# EAGLE library part STM32WLE5J8I6 (library STM32WLE5J8)
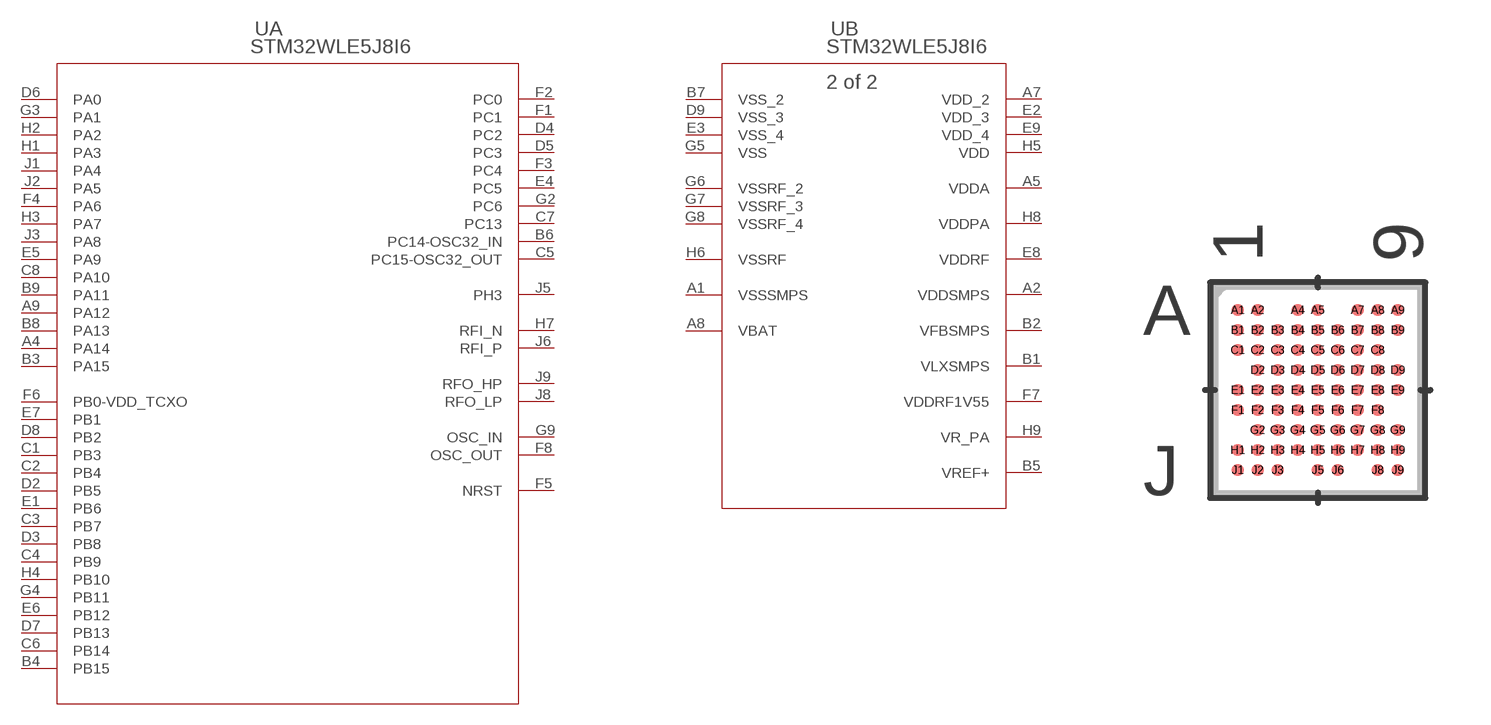
[diagram p0: symbol with the pads of UFBGA73; footprint UFBGA73]

Designator prefix U; gates A=STM32WL_UFBGA73_T1 B=STM32WL_UFBGA73_T1_1

## STM32WLE5J8I6 (COPYRIGHT: Copyright (C) 2023 Ultra Librarian. All rights reserved.; MANUFACTURER_PART_NUMBER: STM32WLE5J8I6; MFR_NAME: STMicroelectronics)  [UFBGA73]
A1  B:VSSSMPS  pwr
A2  B:VDDSMPS  pwr
A4  A:PA14
A5  B:VDDA  pwr
A7  B:VDD_2  pwr
A8  B:VBAT  pwr
A9  A:PA12
B1  B:VLXSMPS  pwr
B2  B:VFBSMPS  pwr
B3  A:PA15
B4  A:PB15
B5  B:VREF+  pwr
B6  A:PC14-OSC32_IN
B7  B:VSS_2  pwr
B8  A:PA13
B9  A:PA11
C1  A:PB3
C2  A:PB4
C3  A:PB7
C4  A:PB9
C5  A:PC15-OSC32_OUT
C6  A:PB14
C7  A:PC13
C8  A:PA10
D2  A:PB5
D3  A:PB8
D4  A:PC2
D5  A:PC3
D6  A:PA0
D7  A:PB13
D8  A:PB2
D9  B:VSS_3  pwr
E1  A:PB6
E2  B:VDD_3  pwr
E3  B:VSS_4  pwr
E4  A:PC5
E5  A:PA9
E6  A:PB12
E7  A:PB1
E8  B:VDDRF  pwr
E9  B:VDD_4  pwr
F1  A:PC1
F2  A:PC0
F3  A:PC4
F4  A:PA6
F5  A:NRST
F6  A:PB0-VDD_TCXO
F7  B:VDDRF1V55  pwr
F8  A:OSC_OUT  out
G2  A:PC6
G3  A:PA1
G4  A:PB11
G5  B:VSS  pwr
G6  B:VSSRF_2  pwr
G7  B:VSSRF_3  pwr
G8  B:VSSRF_4  pwr
G9  A:OSC_IN  in
H1  A:PA3
H2  A:PA2
H3  A:PA7
H4  A:PB10
H5  B:VDD  pwr
H6  B:VSSRF  pwr
H7  A:RFI_N  in
H8  B:VDDPA  pwr
H9  B:VR_PA  pwr
J1  A:PA4
J2  A:PA5
J3  A:PA8
J5  A:PH3
J6  A:RFI_P  in
J8  A:RFO_LP  out
J9  A:RFO_HP  out

## Footprint UFBGA73 (pad centres in mm)
smd 0.305 x 0.305: A1 -2,2; A2 -1.5,2; A4 -0.5,2; A5 0,2; A7 1,2; A8 1.5,2; A9 2,2; B1 -2,1.5; B2 -1.5,1.5; B3 -1,1.5; B4 -0.5,1.5; B5 0,1.5; B6 0.5,1.5; B7 1,1.5; B8 1.5,1.5; B9 2,1.5; C1 -2,1; C2 -1.5,1; C3 -1,1; C4 -0.5,1; C5 0,1; C6 0.5,1; C7 1,1; C8 1.5,1; D2 -1.5,0.5; D3 -1,0.5; D4 -0.5,0.5; D5 0,0.5; D6 0.5,0.5; D7 1,0.5; D8 1.5,0.5; D9 2,0.5; E1 -2,0; E2 -1.5,0; E3 -1,0; E4 -0.5,0; E5 0,0; E6 0.5,0; E7 1,0; E8 1.5,0; E9 2,0; F1 -2,-0.5; F2 -1.5,-0.5; F3 -1,-0.5; F4 -0.5,-0.5; F5 0,-0.5; F6 0.5,-0.5; F7 1,-0.5; F8 1.5,-0.5; G2 -1.5,-1; G3 -1,-1; G4 -0.5,-1; G5 0,-1; G6 0.5,-1; G7 1,-1; G8 1.5,-1; G9 2,-1; H1 -2,-1.5; H2 -1.5,-1.5; H3 -1,-1.5; H4 -0.5,-1.5; H5 0,-1.5; H6 0.5,-1.5; H7 1,-1.5; H8 1.5,-1.5; H9 2,-1.5; J1 -2,-2; J2 -1.5,-2; J3 -1,-2; J5 0,-2; J6 0.5,-2; J8 1.5,-2; J9 2,-2